# EAGLE library part XPORT (library Xport)
Lantronix Model Part Number Description Model Part number Description XPort XE XPort SE XPort SE SMPL XPort 485 XPort 485 SMPL XP1001000-03R XP1001001-03R XP1001000M-03R XP1002000-03R XP1002001-03R XP100200S-03R XP1004000-03R XP100400S-03R XPort RoHS Extended Temperature XPort RoHS Commercial Temperature XPort XE RoHS Extended Temperature, with MODBUS XPort RoHS Extended Temperature, with Encryption XPort RoHS Commercial Temperature, with Encryption XPort RoHS Extended Temperature, with Encryption - Sample XPort RS-485 RoHS Extended Temperature, with Encryption XPort RS-485 RoHS Extended Temperature, with Encryption - Sample
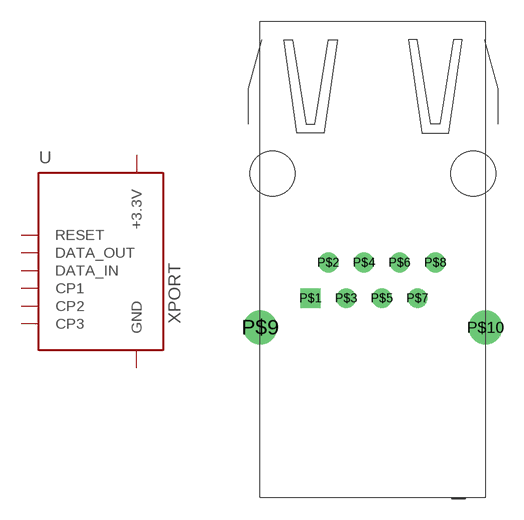
[diagram p0: symbol with the pads of XPORT; footprint XPORT]

Designator prefix -

## XPORTLTRX  [XPORT]
P$1  GND  pwr
P$2  +3.3V  pwr
P$3  RESET  in
P$4  DATA_OUT  out
P$5  DATA_IN  in
P$6  CP1
P$7  CP2
P$8  CP3

## Footprint XPORT (pad centres in mm)
drill 0.9 square: P$1 0,0
drill 0.9 round: P$2 1.27,2.54; P$3 2.54,0; P$4 3.81,2.54; P$5 5.08,0; P$6 6.35,2.54; P$7 7.62,0; P$8 8.89,2.54
drill 1.6 round: P$9 -3.582,-2.082; P$10 12.471,-2.083
hole 3.2 at -2.718,8.89
hole 3.2 at 11.608,8.89